# Altium footprint library RESISTOR_0402.PcbLib: 1 footprints
Each footprint in its own frame and in the unit in brackets; x right, y up, seen from the top. Pads: shape width x height; smd on the part's side, far side on the other; paste and mask are expansions set on the pad; w line width, h text height; cw(c..) or ccw(c..) is an arc to the next point about the centre after c.
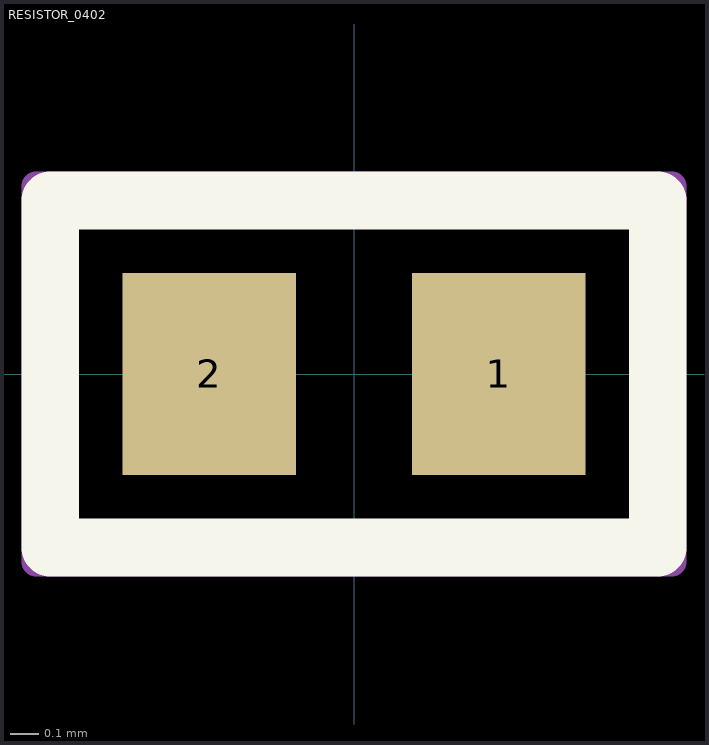
[diagram p0: the footprint, top view; thin cyan lines are the x and y axes]

## RESISTOR_0402 [mm]
pads (2):
  rect 0.6x0.7 smd: 1(0.5,0) 2(-0.5,0)
Top Overlay:
  lines w0.2: -1.05,-0.6 -1.05,0.6 1.05,0.6 1.05,-0.6 -1.05,-0.6
Top Courtyard:
  lines w0.1: -1.1,-0.65 1.1,-0.65 1.1,0.65 -1.1,0.65 -1.1,-0.65
3D body "User Library-RES_1005-0402.step": height 0.41, standoff 0, extent -0.575,-0.275 0.575,0.275